# EAGLE library part SNESCART (library snes_div)
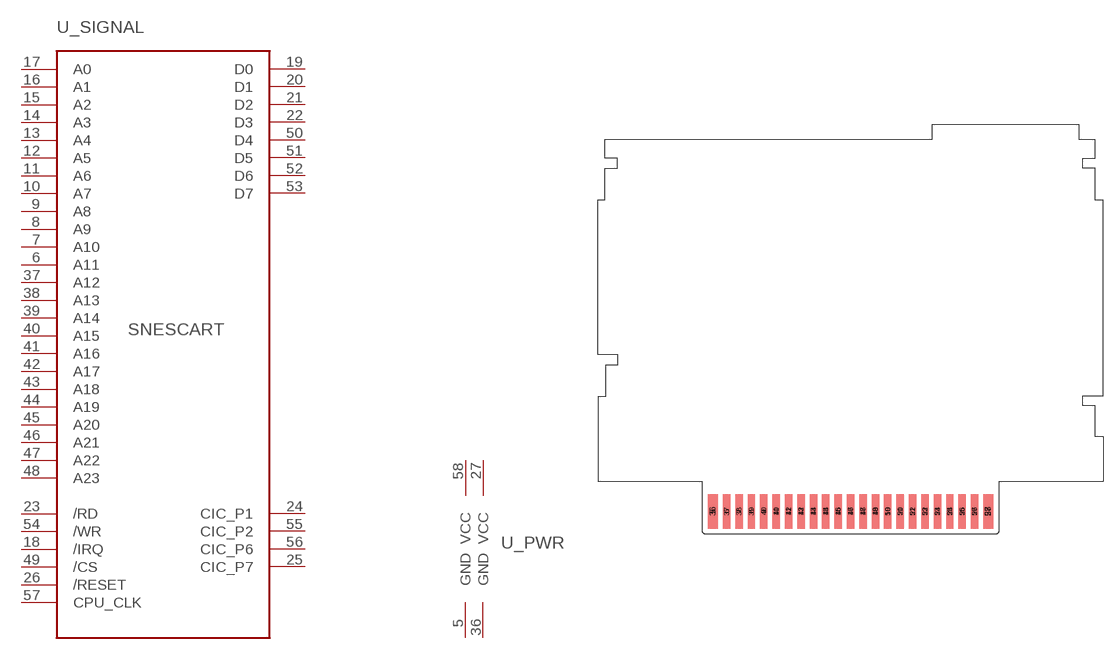
[diagram p1: symbol with the pads of SNESCART; footprint SNESCART]

Designator prefix -; gates _SIGNAL=SNESCART _PWR=CART_PWR

## SNESCART  [SNESCART]
5  _PWR:GND  pwr
6  _SIGNAL:A11
7  _SIGNAL:A10
8  _SIGNAL:A9
9  _SIGNAL:A8
10  _SIGNAL:A7
11  _SIGNAL:A6
12  _SIGNAL:A5
13  _SIGNAL:A4
14  _SIGNAL:A3
15  _SIGNAL:A2
16  _SIGNAL:A1
17  _SIGNAL:A0
18  _SIGNAL:/IRQ
19  _SIGNAL:D0
20  _SIGNAL:D1
21  _SIGNAL:D2
22  _SIGNAL:D3
23  _SIGNAL:/RD
24  _SIGNAL:CIC_P1
25  _SIGNAL:CIC_P7
26  _SIGNAL:/RESET
27  _PWR:VCC  pwr
36  _PWR:GND  pwr
37  _SIGNAL:A12
38  _SIGNAL:A13
39  _SIGNAL:A14
40  _SIGNAL:A15
41  _SIGNAL:A16
42  _SIGNAL:A17
43  _SIGNAL:A18
44  _SIGNAL:A19
45  _SIGNAL:A20
46  _SIGNAL:A21
47  _SIGNAL:A22
48  _SIGNAL:A23
49  _SIGNAL:/CS
50  _SIGNAL:D4
51  _SIGNAL:D5
52  _SIGNAL:D6
53  _SIGNAL:D7
54  _SIGNAL:/WR
55  _SIGNAL:CIC_P2
56  _SIGNAL:CIC_P6
57  _SIGNAL:CPU_CLK
58  _PWR:VCC  pwr

## Footprint SNESCART (pad centres in mm)
smd 2 x 7: 5 -27.75,-0.5; 27 27.75,-0.5
smd 1.5 x 7: 6 -25,-0.5; 7 -22.5,-0.5; 8 -20,-0.5; 9 -17.5,-0.5; 10 -15,-0.5; 11 -12.5,-0.5; 12 -10,-0.5; 13 -7.5,-0.5; 14 -5,-0.5; 15 -2.5,-0.5; 16 0,-0.5; 17 2.5,-0.5; 18 5,-0.5; 19 7.5,-0.5; 20 10,-0.5; 21 12.5,-0.5; 22 15,-0.5; 23 17.5,-0.5; 24 20,-0.5; 25 22.5,-0.5; 26 25,-0.5
smd 2 x 7 bottom: 36 -27.75,-0.5; 58 27.75,-0.5
smd 1.5 x 7 bottom: 37 -25,-0.5; 38 -22.5,-0.5; 39 -20,-0.5; 40 -17.5,-0.5; 41 -15,-0.5; 42 -12.5,-0.5; 43 -10,-0.5; 44 -7.5,-0.5; 45 -5,-0.5; 46 -2.5,-0.5; 47 0,-0.5; 48 2.5,-0.5; 49 5,-0.5; 50 7.5,-0.5; 51 10,-0.5; 52 12.5,-0.5; 53 15,-0.5; 54 17.5,-0.5; 55 20,-0.5; 56 22.5,-0.5; 57 25,-0.5